# Altium schematic symbol library G02 Library.SchLib: 6 symbols
Pins are listed as number, name and electrical type; pins without a type are passive.

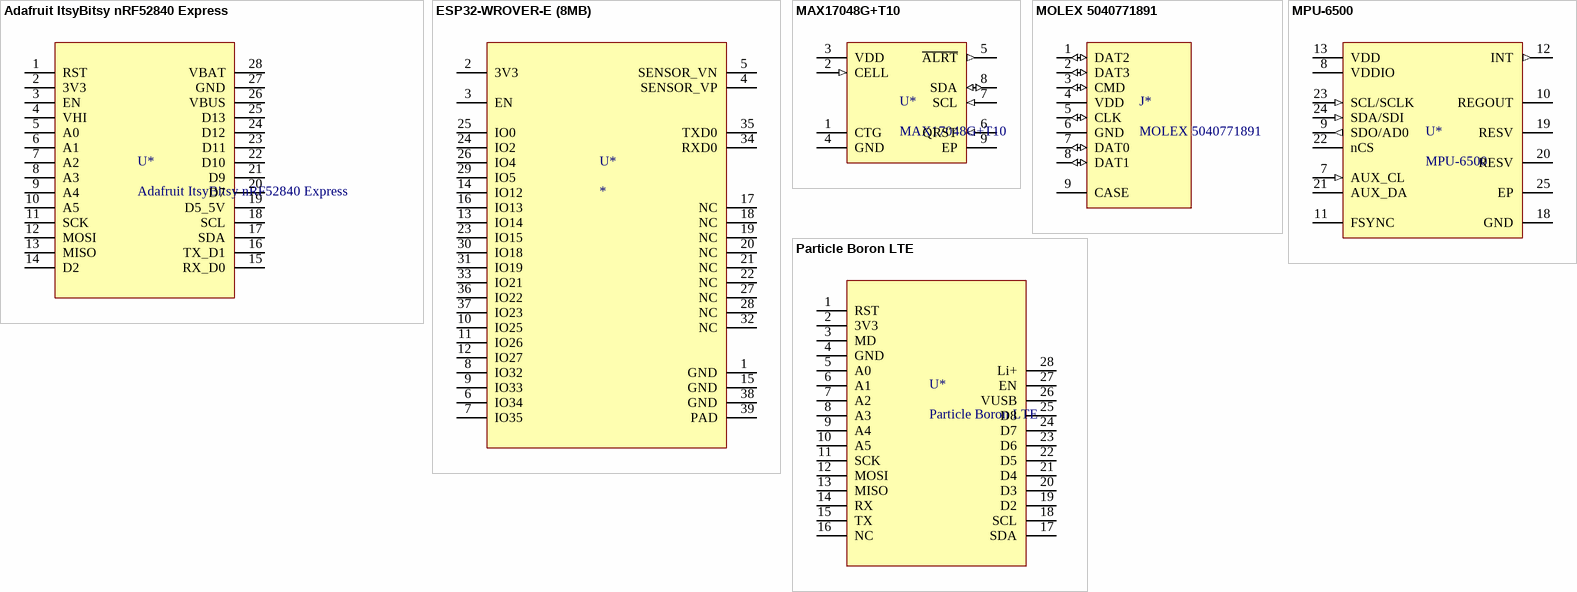
[diagram p0: symbols Adafruit ItsyBitsy nRF52840 Express to Particle Boron LTE]

## Adafruit ItsyBitsy nRF52840 Express
designator U*
footprint Adafruit ItsyBitsy nRF52840 Express
pins: 1 RST, 2 3V3, 3 EN, 4 VHI, 5 A0, 6 A1, 7 A2, 8 A3, 9 A4, 10 A5, 11 SCK, 12 MOSI, 13 MISO, 14 D2, 15 RX_D0, 16 TX_D1, 17 SDA, 18 SCL, 19 D5_5V, 20 D7, 21 D9, 22 D10, 23 D11, 24 D12, 25 D13, 26 VBUS, 27 GND, 28 VBAT

## ESP32-WROVER-E (8MB)
designator U*
footprint ESP32-WROVER-E (8MB)
pins: 1 GND, 2 3V3, 3 EN, 4 SENSOR_VP, 5 SENSOR_VN, 6 IO34, 7 IO35, 8 IO32, 9 IO33, 10 IO25, 11 IO26, 12 IO27, 13 IO14, 14 IO12, 15 GND, 16 IO13, 17 NC, 18 NC, 19 NC, 20 NC, 21 NC, 22 NC, 23 IO15, 24 IO2, 25 IO0, 26 IO4, 27 NC, 28 NC, 29 IO5, 30 IO18, 31 IO19, 32 NC, 33 IO21, 34 RXD0, 35 TXD0, 36 IO22, 37 IO23, 38 GND, 39 PAD

## MAX17048G+T10
designator U*
Digikey PN: MAX17048G+T10CT-ND
footprint MAX17048G+T10
pins: 1 CTG (power), 2 CELL (in), 3 VDD (power), 4 GND (power), 5 ~{ALRT} (out), 6 QRST (in), 7 SCL (in), 8 SDA (io), 9 EP (power)

## MOLEX 5040771891
designator J*
footprint MOLEX 5040771891
pins: 1 DAT2 (io), 2 DAT3 (io), 3 CMD (io), 4 VDD (power), 5 CLK (io), 6 GND (power), 7 DAT0 (io), 8 DAT1 (io), 9 CASE (power)

## MPU-6500
designator U*
footprint MPU-6500
pins: 1 NC hidden, 2 NC hidden, 3 NC hidden, 4 NC hidden, 5 NC hidden, 6 NC hidden, 7 AUX_CL (in), 8 VDDIO, 9 SDO/AD0 (out), 10 REGOUT, 11 FSYNC, 12 INT (out), 13 VDD, 14 NC hidden, 15 NC hidden, 16 NC hidden, 17 NC hidden, 18 GND, 19 RESV, 20 RESV, 21 AUX_DA, 22 nCS, 23 SCL/SCLK (in), 24 SDA/SDI (in), 25 EP, ?1 NC hidden

## Particle Boron LTE
designator U*
footprint Particle Boron LTE
pins: 1 RST, 2 3V3, 3 MD, 4 GND, 5 A0, 6 A1, 7 A2, 8 A3, 9 A4, 10 A5, 11 SCK, 12 MOSI, 13 MISO, 14 RX, 15 TX, 16 NC, 17 SDA, 18 SCL, 19 D2, 20 D3, 21 D4, 22 D5, 23 D6, 24 D7, 25 D8, 26 VUSB, 27 EN, 28 Li+